# Altium schematic symbol library Switch SPDT_chip_6_Lead.Schlib: 1 symbol
Pins are listed as number, name and electrical type; pins without a type are passive.

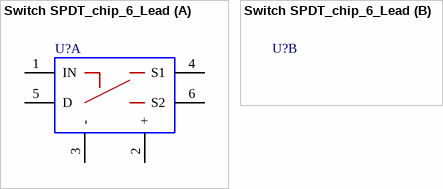
[diagram p0: symbol Switch SPDT_chip_6_Lead]

## Switch SPDT_chip_6_Lead
designator U?
Switch, SPDT
part A pins: 1 IN, 2 +, 3 -, 4 S1, 5 D, 6 S2
3 alternate drawings of the same symbol